# EAGLE library part TP_8 (library TempMonitor)
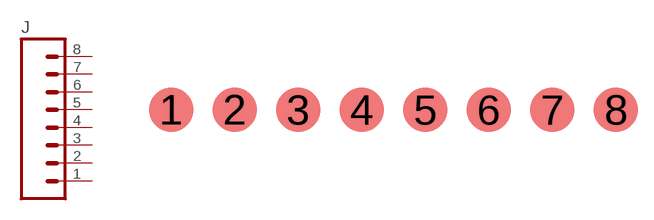
[diagram p0: symbol with the pads of TP_8; footprint TP_8]

Designator prefix J

## TP_8  [TP_8]
1  1  pas
2  2  pas
3  3  pas
4  4  pas
5  5  pas
6  6  pas
7  7  pas
8  8  pas

## Footprint TP_8 (pad centres in mm)
smd 1.778 x 1.778: 1 0,0; 2 2.54,0; 3 5.08,0; 4 7.62,0; 5 10.16,0; 6 12.7,0; 7 15.24,0; 8 17.78,0